# EAGLE library part BA6209 (library 0MatranLED)
12
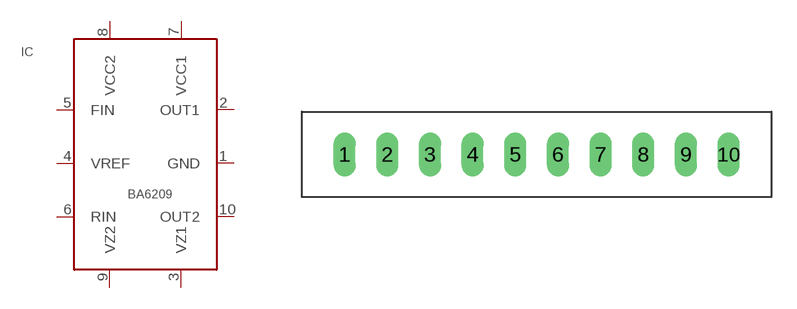
[diagram p3: symbol with the pads of BA6209; footprint BA6209]

Designator prefix IC

## BA6209N  [BA6209]
1  GND
2  OUT1
3  VZ1
4  VREF
5  FIN
6  RIN
7  VCC1
8  VCC2
9  VZ2
10  OUT2

## Footprint BA6209 (pad centres in mm)
drill 0.8 long: 1 -11.43,0; 2 -8.89,0; 3 -6.35,0; 4 -3.81,0; 5 -1.27,0; 6 1.27,0; 7 3.81,0; 8 6.35,0; 9 8.89,0; 10 11.43,0